# EAGLE library part MK3DS1/2-3,81 (library untitled)
6-polige, dreistckige Reihenklemme im Raster 3.81mm Typ Phoenix MK3DS 1/2-3,81, Artikelnummer 1727735
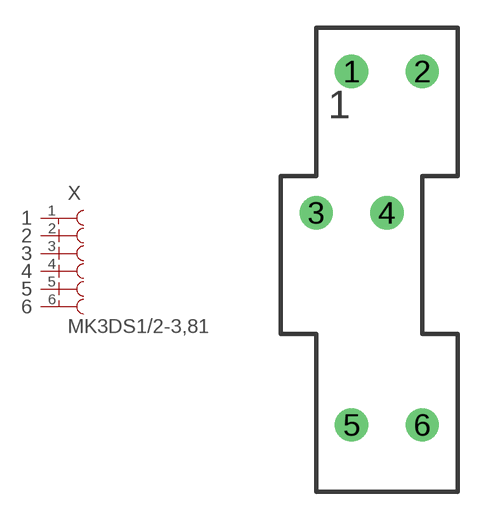
[diagram p0: symbol with the pads of MK3DS1/2; footprint MK3DS1/2]

Designator prefix X

## MK3DS1/2-3,81  [MK3DS1/2]
1  1  pas
2  2  pas
3  3  pas
4  4  pas
5  5  pas
6  6  pas

## Footprint MK3DS1/2 (pad centres in mm)
6-polige, dreistckige Reihenklemme Phoenix MK3DS1/2
drill 1.194 pad 1.778 round: 1 0,19.05; 2 3.81,19.05; 3 -1.905,11.43; 4 1.905,11.43; 5 0,0; 6 3.81,0